# Altium footprint library LegacyTOxx.PcbLib: 110 footprints (part 5 of 7)
Each footprint in its own frame and in the unit in brackets; x right, y up, seen from the top. Pads: shape width x height; smd on the part's side, far side on the other; paste and mask are expansions set on the pad; w line width, h text height; cw(c..) or ccw(c..) is an arc to the next point about the centre after c.
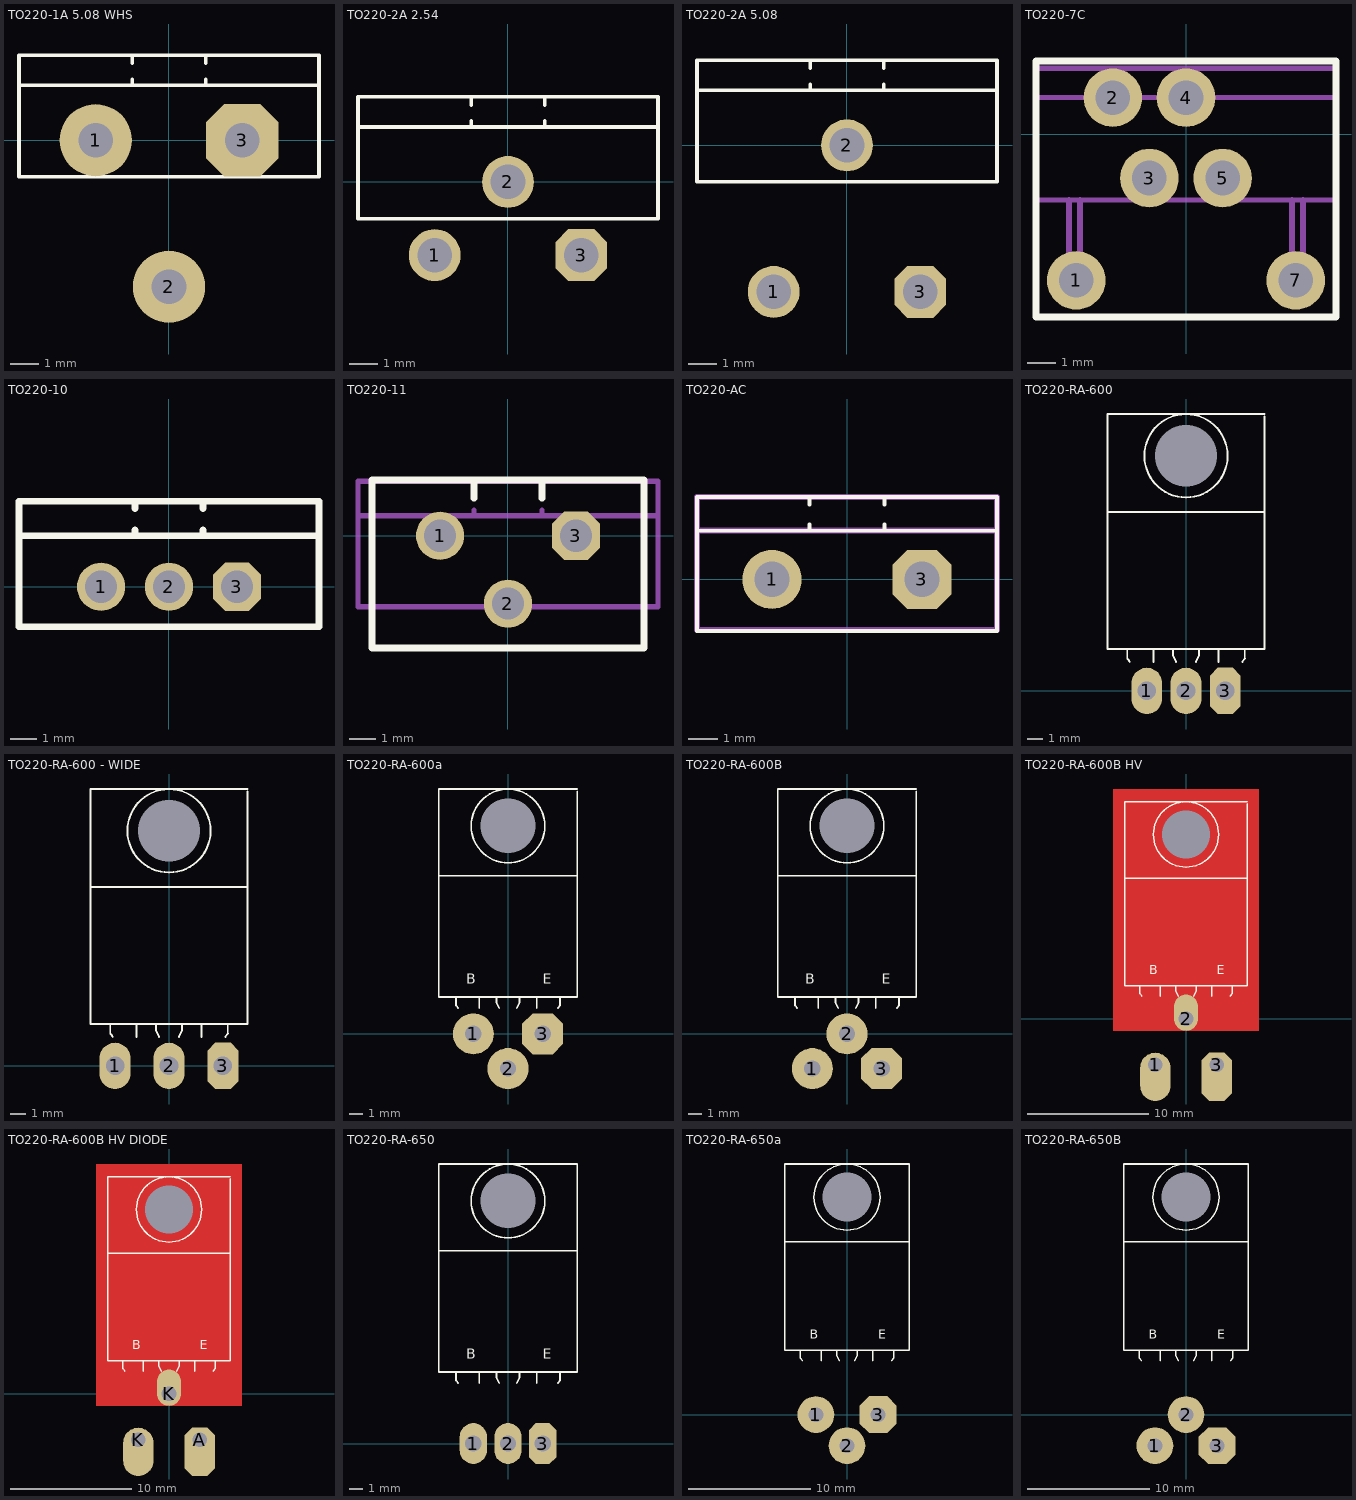
[diagram p4: the footprints below, top view; thin cyan lines are the x and y axes]

## TO220-1A 5.08 WHS [mm]
pads (3):
  round 2.5 hole 1.2: 1(-2.54,0) 2(0,-5.08)
  oct 2.5x2.5 hole 1.2: 3(2.54,0)
TopOverlay:
  lines w0.125: -5.2,1.905 5.2,1.905 ; -1.27,1.905 -1.27,2.117 ; -1.27,2.667 -1.27,2.921 ; 1.27,1.905 1.27,2.117 ; 1.27,2.667 1.27,2.921 ; -5.2,-1.27 5.2,-1.27 5.2,2.95 -5.2,2.95 -5.2,-1.27
3D body "TO220-1A 5.08.STEP": height 23.29, standoff -2.41, extent -5.2,-5.331 5.2,2.95
3D body "User Library-To-220-6.step": height 23.5, standoff 3.5, extent -7.5,-3.5 7.5,6.5

## TO220-2A 2.54 [mm]
pads (3):
  round 1.8 hole 1.2: 1(-2.54,-2.54) 2(0,0)
  oct 1.8x1.8 hole 1.2: 3(2.54,-2.54)
TopOverlay:
  lines w0.125: -5.2,1.905 5.2,1.905 ; -1.27,1.905 -1.27,2.117 ; -1.27,2.667 -1.27,2.921 ; 1.27,1.905 1.27,2.117 ; 1.27,2.667 1.27,2.921 ; -5.2,-1.27 5.2,-1.27 5.2,2.95 -5.2,2.95 -5.2,-1.27
3D body "TO220-2A 2.54.STEP": height 23.29, standoff -3.87, extent -5.2,-2.791 5.2,2.95

## TO220-2A 5.08 [mm]
pads (3):
  round 1.8 hole 1.2: 1(-2.54,-5.08) 2(0,0)
  oct 1.8x1.8 hole 1.2: 3(2.54,-5.08)
TopOverlay:
  lines w0.125: -5.2,1.905 5.2,1.905 ; -1.27,1.905 -1.27,2.117 ; -1.27,2.667 -1.27,2.921 ; 1.27,1.905 1.27,2.117 ; 1.27,2.667 1.27,2.921 ; -5.2,-1.27 5.2,-1.27 5.2,2.95 -5.2,2.95 -5.2,-1.27
3D body "TO220-2A 5.08.STEP": height 23.29, standoff -2.41, extent -5.2,-5.331 5.2,2.95

## TO220-7C [mil]
pads (6):
  round 80 hole 47.24: 1(-150,-200) 2(-100,50) 3(-50,-60) 4(0,50) 5(50,-60) 7(150,-200)
TopOverlay:
  lines w10: -205,-250 205,-250 205,100 -205,100 -205,-250
Mechanical13:
  lines w7.01: -205,50 205,50 ; -205,-90 205,-90 205,90 -205,90 -205,-90
  lines w7.87: -160,-90 -160,-215 -145,-215 -145,-200 -145,-90 ; 145,-90 145,-215 160,-215 160,-200 160,-90
3D body "User Library-TO-220-7C.step": height 758.19, standoff -85.91, extent -204.44,-215.08 205,105

## TO220-10 [mm]
pads (3):
  round 1.8 hole 1.2: 1(-2.54,0) 2(0,0)
  oct 1.8x1.8 hole 1.2: 3(2.54,0)
TopOverlay:
  lines w0.254: -5.588,1.905 5.588,1.905 ; -1.27,1.905 -1.27,2.117 ; -1.27,2.921 -1.27,3.175 ; 1.27,1.905 1.27,2.117 ; 1.27,2.921 1.27,3.175 ; -5.606,-1.495 -5.606,3.195 5.607,3.195 5.607,-1.495 -5.606,-1.495
Mechanical3:
  text ".Designator / .Comment" at -2.159,1.778 h1.02
Mechanical13:
  lines w0.2: -5.588,1.905 5.588,1.905 ; -1.27,1.905 -1.27,2.117 ; -1.27,2.921 -1.27,3.175 ; 1.27,1.905 1.27,2.117 ; 1.27,2.921 1.27,3.175 ; -5.606,-1.495 -5.606,3.195 5.607,3.195 5.607,-1.495 -5.606,-1.495
3D body "TO220-10.STEP": height 21.33, standoff -3.05, extent -5.606,-1.495 5.607,3.195

## TO220-11 [mm]
pads (3):
  round 1.8 hole 1.2: 1(-2.54,0) 2(0,-2.54)
  oct 1.8x1.8 hole 1.2: 3(2.54,0)
TopOverlay:
  lines w0.254: -1.27,1.4 -1.27,2.032 ; 1.27,1.4 1.27,2.032 ; -5.08,-4.2 -5.08,1.27 -5.08,2.085 5.08,2.085 5.08,1.27 5.08,-4.2 -5.08,-4.2
Mechanical3:
  text ".Designator / .Comment" at -2.159,1.143 h1.02
Mechanical13:
  lines w0.2: -5.588,0.75 5.588,0.75 ; -1.27,0.75 -1.27,0.962 ; -1.27,1.766 -1.27,2.02 ; 1.27,0.75 1.27,0.962 ; 1.27,1.766 1.27,2.02 ; -5.606,-2.65 -5.606,2.04 5.607,2.04 5.607,-2.65 -5.606,-2.65
3D body "TO220-11.STEP": height 22.98, standoff -2.33, extent -5.08,-2.845 5.08,2.085

## TO220-AC [mm]
pads (2):
  round 2 hole 1.2: 1(-2.54,0)
  oct 2x2 hole 1.2: 3(2.54,0)
TopOverlay:
  lines w0.125: -5.08,1.651 5.08,1.651 ; -1.27,1.651 -1.27,1.863 ; -1.27,2.54 -1.27,2.794 ; 1.27,1.651 1.27,1.863 ; 1.27,2.54 1.27,2.794 ; -5.08,-1.749 5.08,-1.749 5.08,2.794 -5.08,2.794 -5.08,-1.749
Mechanical3:
  text ".Designator / .Comment" at -2.159,1.143 h1.02
Mechanical13:
  lines w0.2: -5,1.651 5,1.651 ; -5.08,-1.706 5.08,-1.706 5.08,2.794 -5.08,2.794 -5.08,-1.706
3D body "User Library-TO220-2_V-L.STEP": height 25.04, standoff -4.46, extent -5,-1.706 5,2.794

## TO220-RA-600 [mm]
pads (4):
  oval 2x3 hole 1.2: 1(-2.54,0) 2(0,0)
  round 0 hole 4 unplated: 2(0,15.24)
  oct 2x3 hole 1.2: 3(2.54,0)
TopOverlay:
  circle w0.125: c0,15.24 r2.7
  lines w0.125: -5.08,11.599 5.08,11.599 ; -3.81,2.074 -3.81,2.709 ; -3.762,2.042 -3.647,1.881 ; -2.117,1.881 -2.117,2.709 ; -0.847,2.709 -0.847,2.286 -0.635,1.881 ; 0.635,1.881 0.847,2.286 0.847,2.709 ; 2.117,1.881 2.117,2.709 ; 3.655,1.881 3.818,2.098 ; 3.81,2.074 3.81,2.709 ; 5.08,17.78 5.08,2.709 -5.08,2.709 -5.08,17.949 5.08,17.949
3D body "TO220-RA-600.STEP": height 4.45, standoff -1.79, extent -5.08,-0.19 5.08,17.78

## TO220-RA-600 - WIDE [mm]
pads (4):
  oval 2x3 hole 1.2: 1(-3.5,0) 2(0,0)
  round 0 hole 4 unplated: 2(0,15.24)
  oct 2x3 hole 1.2: 3(3.5,0)
TopOverlay:
  circle w0.125: c0,15.24 r2.7
  lines w0.125: -5.08,11.599 5.08,11.599 ; -3.81,2.074 -3.81,2.709 ; -3.762,2.042 -3.647,1.881 ; -2.117,1.881 -2.117,2.709 ; -0.847,2.709 -0.847,2.286 -0.635,1.881 ; 0.635,1.881 0.847,2.286 0.847,2.709 ; 2.117,1.881 2.117,2.709 ; 3.655,1.881 3.818,2.098 ; 3.81,2.074 3.81,2.709 ; 5.08,17.78 5.08,2.709 -5.08,2.709 -5.08,17.949 5.08,17.949
3D body "TO220-RA-600.STEP": height 4.45, standoff -1.79, extent -5.08,-0.19 5.08,17.78

## TO220-RA-600a [mm]
pads (4):
  round 0 hole 4 unplated: 0(0,15.24)
  round 3 hole 1.2: 1(-2.54,0) 2(0,-2.54)
  oct 3x3 hole 1.2: 3(2.54,0)
TopOverlay:
  circle w0.125: c0,15.24 r2.7
  lines w0.125: -5.08,11.599 5.08,11.599 ; -3.81,2.074 -3.81,2.709 ; -3.762,2.042 -3.647,1.881 ; -2.117,1.881 -2.117,2.709 ; -0.847,2.709 -0.847,2.286 -0.635,1.881 ; 0.635,1.881 0.847,2.286 0.847,2.709 ; 2.117,1.881 2.117,2.709 ; 3.655,1.881 3.818,2.098 ; 3.81,2.074 3.81,2.709 ; 5.08,17.78 5.08,2.709 -5.08,2.709 -5.08,17.949 5.08,17.949
  text "E" at 2.54,3.429 h1.27
  text "B" at -3.048,3.429 h1.27
3D body "TO220-RA-600.STEP": height 4.45, standoff -1.79, extent -5.08,-0.19 5.08,17.78

## TO220-RA-600B [mm]
pads (4):
  round 0 hole 4 unplated: 0(0,15.24)
  round 3 hole 1.2: 1(-2.54,-2.54) 2(0,0)
  oct 3x3 hole 1.2: 3(2.54,-2.54)
TopOverlay:
  circle w0.125: c0,15.24 r2.7
  lines w0.125: -5.08,11.599 5.08,11.599 ; -3.81,2.074 -3.81,2.709 ; -3.762,2.042 -3.647,1.881 ; -2.117,1.881 -2.117,2.709 ; -0.847,2.709 -0.847,2.286 -0.635,1.881 ; 0.635,1.881 0.847,2.286 0.847,2.709 ; 2.117,1.881 2.117,2.709 ; 3.655,1.881 3.818,2.098 ; 3.81,2.074 3.81,2.709 ; 5.08,17.78 5.08,2.709 -5.08,2.709 -5.08,17.949 5.08,17.949
  text "E" at 2.54,3.429 h1.27
  text "B" at -3.048,3.429 h1.27
3D body "TO220-RA-600.STEP": height 4.45, standoff -1.79, extent -5.08,-0.19 5.08,17.78

## TO220-RA-600B HV [mm]
pads (4):
  oval 2.5x4 hole 1.2 copper offset 0,-1: 1(-2.54,-3.81)
  oval 2x3 hole 1.2 copper offset 0,0.5: 2(0,0)
  round 0 hole 4 unplated: 2(0,15.24)
  oct 2.5x4 hole 1.2 copper offset 0,-1: 3(2.54,-3.81)
TopLayer:
  region: -6,-1 -6,1 -6,19 6,19 6,-1 -2.5,-1
TopOverlay:
  circle w0.125: c0,15.24 r2.7
  lines w0.125: -5.08,11.599 5.08,11.599 ; -3.81,2.074 -3.81,2.709 ; -3.762,2.042 -3.647,1.881 ; -2.117,1.881 -2.117,2.709 ; -0.847,2.709 -0.847,2.286 -0.635,1.881 ; 0.635,1.881 0.847,2.286 0.847,2.709 ; 2.117,1.881 2.117,2.709 ; 3.655,1.881 3.818,2.098 ; 3.81,2.074 3.81,2.709 ; 5.08,17.78 5.08,2.709 -5.08,2.709 -5.08,17.949 5.08,17.949
  text "B" at -3.048,3.429 h1.27
  text "E" at 2.54,3.429 h1.27
3D body "TO220-RA-600.STEP": height 4.45, standoff -1.79, extent -5.08,-0.19 5.08,17.78

## TO220-RA-600B HV DIODE [mm]
pads (4):
  oct 2.5x4 hole 1.2 copper offset 0,-1: A(2.54,-3.81)
  oval 2.5x4 hole 1.2 copper offset 0,-1: K(-2.54,-3.81)
  oval 2x3 hole 1.2 copper offset 0,0.5: K(0,0)
  round 0 hole 4 unplated: K(0,15.24)
TopLayer:
  region: -6,-1 -6,1 -6,19 6,19 6,-1 -2.5,-1
TopOverlay:
  circle w0.125: c0,15.24 r2.7
  lines w0.125: -5.08,11.599 5.08,11.599 ; -3.81,2.074 -3.81,2.709 ; -3.762,2.042 -3.647,1.881 ; -2.117,1.881 -2.117,2.709 ; -0.847,2.709 -0.847,2.286 -0.635,1.881 ; 0.635,1.881 0.847,2.286 0.847,2.709 ; 2.117,1.881 2.117,2.709 ; 3.655,1.881 3.818,2.098 ; 3.81,2.074 3.81,2.709 ; 5.08,17.78 5.08,2.709 -5.08,2.709 -5.08,17.949 5.08,17.949
  text "B" at -3.048,3.429 h1.27
  text "E" at 2.54,3.429 h1.27
3D body "TO220-RA-600.STEP": height 4.45, standoff -1.79, extent -5.08,-0.19 5.08,17.78

## TO220-RA-650 [mm]
pads (4):
  round 0 hole 4 unplated: 0(0,17.78)
  oval 2x3 hole 1.2: 1(-2.54,0) 2(0,0)
  oct 2x3 hole 1.2: 3(2.54,0)
TopOverlay:
  circle w0.125: c0,17.78 r2.7
  lines w0.125: -5.08,14.139 5.08,14.139 ; -3.81,4.614 -3.81,5.249 ; -3.762,4.582 -3.647,4.421 ; -2.117,4.421 -2.117,5.249 ; -0.847,5.249 -0.847,4.826 -0.635,4.421 ; 0.635,4.421 0.847,4.826 0.847,5.249 ; 2.117,4.421 2.117,5.249 ; 3.655,4.421 3.818,4.638 ; 3.81,4.614 3.81,5.249 ; -5.08,5.249 -5.08,20.489 5.08,20.489 5.08,5.249 -5.08,5.249
  text "E" at 2.54,5.969 h1.27
  text "B" at -3.048,5.969 h1.27
3D body "TO220-RA-650.STEP": height 4.45, standoff -1.79, extent -5.08,-0.19 5.08,20.36

## TO220-RA-650a [mm]
pads (4):
  round 0 hole 4 unplated: 0(0,17.78)
  round 3 hole 1.2: 1(-2.54,0) 2(0,-2.54)
  oct 3x3 hole 1.2: 3(2.54,0)
TopOverlay:
  circle w0.125: c0,17.78 r2.7
  lines w0.125: -5.08,14.139 5.08,14.139 ; -3.81,4.614 -3.81,5.249 ; -3.762,4.582 -3.647,4.421 ; -2.117,4.421 -2.117,5.249 ; -0.847,5.249 -0.847,4.826 -0.635,4.421 ; 0.635,4.421 0.847,4.826 0.847,5.249 ; 2.117,4.421 2.117,5.249 ; 3.655,4.421 3.818,4.638 ; 3.81,4.614 3.81,5.249 ; -5.08,5.249 5.08,5.249 5.08,20.489 -5.08,20.489 -5.08,5.249
  text "B" at -3.048,5.969 h1.27
  text "E" at 2.54,5.969 h1.27
3D body "TO220-RA-650.STEP": height 4.45, standoff -1.79, extent -5.08,-0.19 5.08,20.36

## TO220-RA-650B [mm]
pads (4):
  round 0 hole 4 unplated: 0(0,17.78)
  round 3 hole 1.2: 1(-2.54,-2.54) 2(0,0)
  oct 3x3 hole 1.2: 3(2.54,-2.54)
TopOverlay:
  circle w0.125: c0,17.78 r2.7
  lines w0.125: -5.08,14.139 5.08,14.139 ; -3.81,4.614 -3.81,5.249 ; -3.762,4.582 -3.647,4.421 ; -2.117,4.421 -2.117,5.249 ; -0.847,5.249 -0.847,4.826 -0.635,4.421 ; 0.635,4.421 0.847,4.826 0.847,5.249 ; 2.117,4.421 2.117,5.249 ; 3.655,4.421 3.818,4.638 ; 3.81,4.614 3.81,5.249 ; -5.08,5.249 5.08,5.249 5.08,20.489 -5.08,20.489 -5.08,5.249
  text "B" at -3.048,5.969 h1.27
  text "E" at 2.54,5.969 h1.27
3D body "TO220-RA-650.STEP": height 4.45, standoff -1.79, extent -5.08,-0.19 5.08,20.36